# Altium footprint library RES_1W_VERTICAL.PcbLib: 1 footprints
Each footprint in its own frame and in the unit in brackets; x right, y up, seen from the top. Pads: shape width x height; smd on the part's side, far side on the other; paste and mask are expansions set on the pad; w line width, h text height; cw(c..) or ccw(c..) is an arc to the next point about the centre after c.
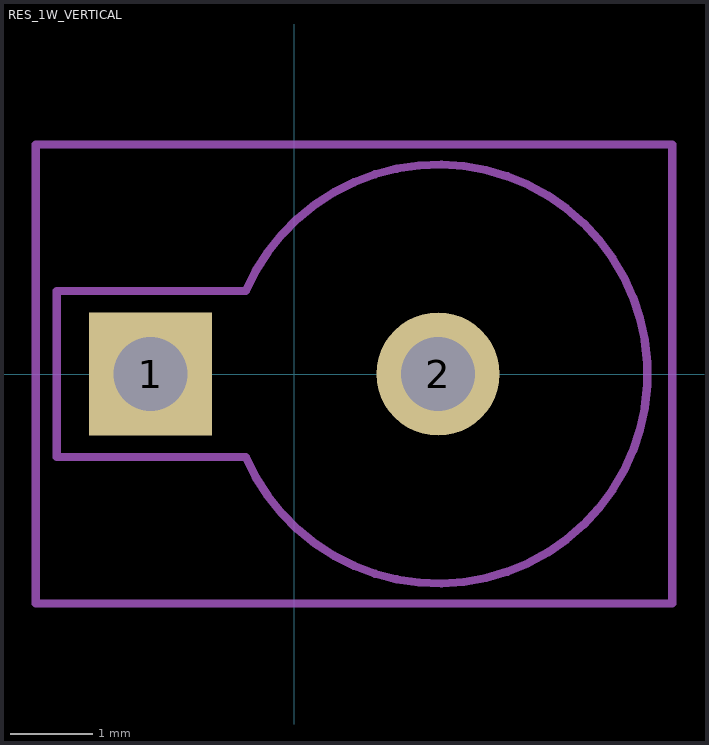
[diagram p0: the footprint, top view; thin cyan lines are the x and y axes]

## RES_1W_VERTICAL [mm]
pads (2):
  rect 1.5x1.5 hole 0.9: 1(-1.75,0)
  round 1.5 hole 0.9: 2(1.75,0)
Mechanical 13:
  lines w0.1: -2.893,-1.009 -0.592,-1.009 ccw(c1.75,0) -0.592,1.009 -2.893,1.009 -2.893,-0.889 -2.893,-1.009
Mechanical 15:
  lines w0.1: -3.147,-2.794 -3.147,2.794 4.6,2.794 4.6,-2.794 -3.147,-2.794
3D body: height 14.46, standoff -4.51, extent -2.074,-2.096 3.351,2.097